# EAGLE library part MAX40027ATC_VY+T (library MAX40027ATC_VY+T)
Dual 280ps High-Speed Comparator, Ultra-Low Dispersion with LVDS Outputs Source: Datasheet <https://pdfserv.maximintegrated.com/en/ds/MAX40027.pdf>
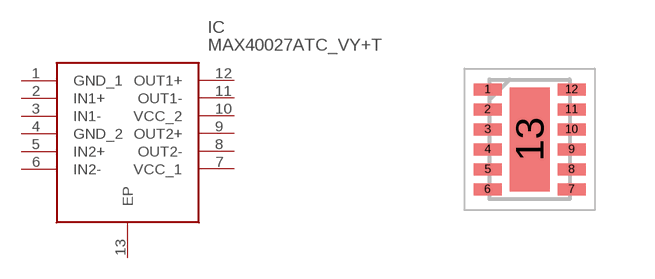
[diagram p0: symbol with the pads of SON50P200X300X80-13N; footprint SON50P200X300X80-13N]

Designator prefix IC

## MAX40027ATC_VY+T (Description: Dual 280ps High-Speed Comparator, Ultra-Low Dispersion with LVDS Outputs; Height: 0.8mm; Manufacturer_Name: Analog Devices; Manufacturer_Part_Number: MAX40027ATC/VY+T; Mouser_Part_Number: 700-MAX40027ATC/VY+T; Mouser_Price-Stock: https://www.mouser.co.uk/ProductDetail/Analog-Devices-Maxim-Integrated/MAX40027ATC-VY%2bT?qs=vmHwEFxEFR8%252B9HSNBRNlvA%3D%3D)  [SON50P200X300X80-13N]
1  GND_1
2  IN1+
3  IN1-
4  GND_2
5  IN2+
6  IN2-
7  VCC_1
8  OUT2-
9  OUT2+
10  VCC_2
11  OUT1-
12  OUT1+
13  EP

## Footprint SON50P200X300X80-13N (pad centres in mm)
TD1232MY+1
smd 0.7 x 0.3: 1 -1.05,1.25; 2 -1.05,0.75; 3 -1.05,0.25; 4 -1.05,-0.25; 5 -1.05,-0.75; 6 -1.05,-1.25; 7 1.05,-1.25; 8 1.05,-0.75; 9 1.05,-0.25; 10 1.05,0.25; 11 1.05,0.75; 12 1.05,1.25
smd 1 x 2.6: 13 0,0